# Altium footprint library Inductor_SMD.PcbLib: 587 footprints (part 33 of 37)
Each footprint in its own frame and in the unit in brackets; x right, y up, seen from the top. Pads: shape width x height; smd on the part's side, far side on the other; paste and mask are expansions set on the pad; w line width, h text height; cw(c..) or ccw(c..) is an arc to the next point about the centre after c.
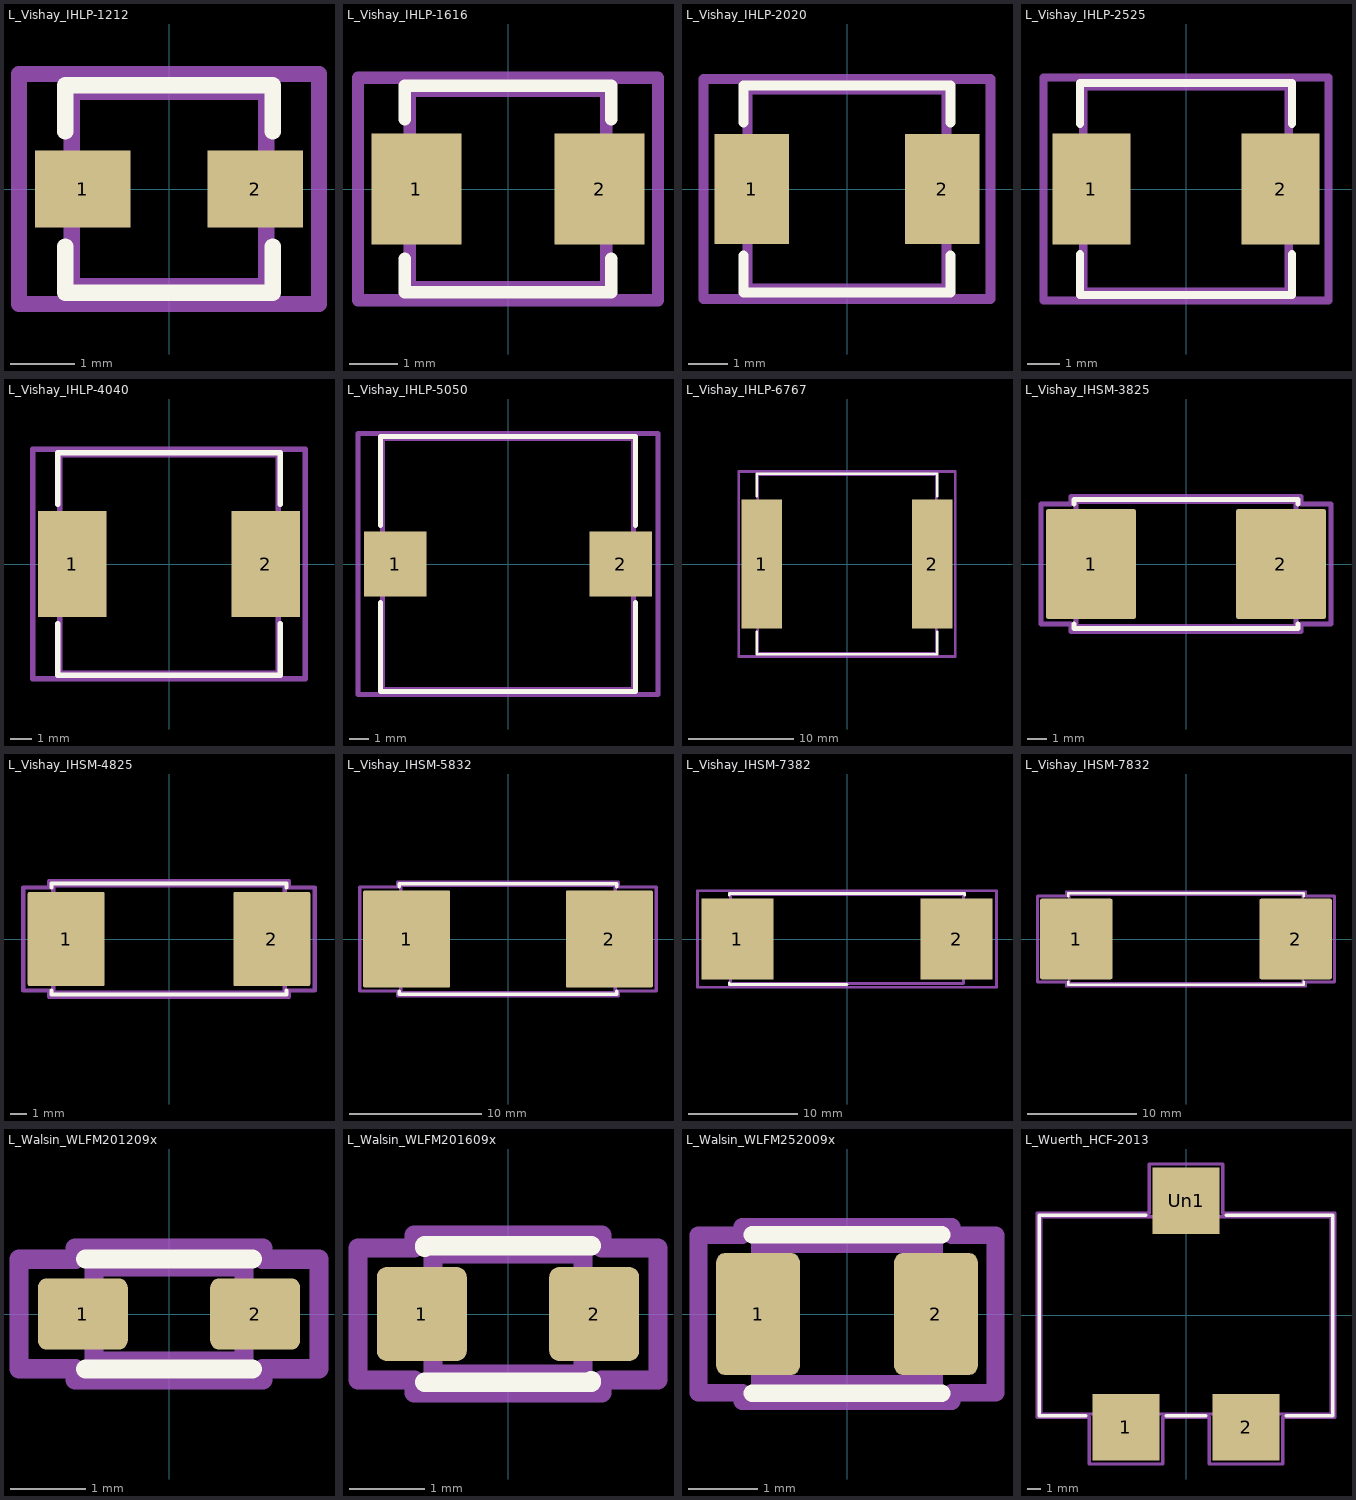
[diagram p32: the footprints below, top view; thin cyan lines are the x and y axes]

## L_Vishay_IHLP-1212 [mm] "L_Vishay_IHLP-1212"
pads (2):
  rect 1.5x1.2 smd: 1(-1.35,0) 2(1.35,0)
F.SilkS:
  lines w0.254: -1.624,-0.9 -1.624,-1.624 1.624,-1.624 1.624,-0.9 ; -1.624,0.9 -1.624,1.624 1.624,1.624 1.624,0.9
Top Assembly:
  lines w0.254: -1.524,-1.524 -1.524,1.524 1.524,1.524 1.524,-1.524 -1.524,-1.524
  text "'.Designator'" at -2.833,-0.588 h0.7
Top Courtyard:
  lines w0.254: -2.35,-1.8 -2.35,1.8 2.35,1.8 2.35,-1.8 -2.35,-1.8
Top Designator:
  text ".Designator" at -7.723,-0.508 h1.52

## L_Vishay_IHLP-1616 [mil] "L_Vishay_IHLP-1616"
pads (2):
  rect 73.01x90 smd: 1(-74.5,0) 2(74.5,0)
F.SilkS:
  lines w10: -83.94,-56.81 -83.94,-83.94 83.94,-83.94 83.94,-56.81 ; -83.94,56.81 -83.94,83.94 83.94,83.94 83.94,56.81
Top Assembly:
  lines w10: -80,-80 -80,80 80,80 80,-80 -80,-80
  text "'.Designator'" at -159.32,-33.08 h39.37
Top Courtyard:
  lines w10: -122.05,-90.55 -122.05,90.55 122.05,90.55 122.05,-90.55 -122.05,-90.55
Top Designator:
  text ".Designator" at -305.81,-19.99 h60

## L_Vishay_IHLP-2020 [mm] "L_Vishay_IHLP-2020"
pads (2):
  rect 1.903x2.79 smd: 1(-2.427,0) 2(2.427,0)
F.SilkS:
  lines w0.254: -2.64,-1.695 -2.64,-2.64 2.64,-2.64 2.64,-1.695 ; -2.64,1.695 -2.64,2.64 2.64,2.64 2.64,1.695
Top Assembly:
  lines w0.254: -2.54,-2.54 -2.54,2.54 2.54,2.54 2.54,-2.54 -2.54,-2.54
  text "'.Designator'" at -4.047,-0.84 h1
Top Courtyard:
  lines w0.254: -3.65,-2.8 -3.65,2.8 3.65,2.8 3.65,-2.8 -3.65,-2.8
Top Designator:
  text ".Designator" at -7.768,-0.508 h1.52

## L_Vishay_IHLP-2525 [mil] "L_Vishay_IHLP-2525"
pads (2):
  rect 95x135 smd: 1(-115,0) 2(115,0)
F.SilkS:
  lines w10: -128.94,-79.31 -128.94,-128.94 128.94,-128.94 128.94,-79.31 ; -128.94,79.31 -128.94,128.94 128.94,128.94 128.94,79.31
Top Assembly:
  lines w10: -125,-125 -125,125 125,125 125,-125 -125,-125
  text "'.Designator'" at -159.32,-33.08 h39.37
Top Courtyard:
  lines w10: -173.23,-135.83 -173.23,135.83 173.23,135.83 173.23,-135.83 -173.23,-135.83
Top Designator:
  text ".Designator" at -299.9,-19.99 h60

## L_Vishay_IHLP-4040 [mm] "L_Vishay_IHLP-4040"
pads (2):
  rect 3.175x4.95 smd: 1(-4.507,0) 2(4.507,0)
F.SilkS:
  lines w0.254: -5.18,-2.775 -5.18,-5.18 5.18,-5.18 5.18,-2.775 ; -5.18,2.775 -5.18,5.18 5.18,5.18 5.18,2.775
Top Assembly:
  lines w0.254: -5.08,-5.08 5.08,-5.08 5.08,5.08 -5.08,5.08 -5.08,-5.08
  text "'.Designator'" at -4.047,-0.84 h1
Top Courtyard:
  lines w0.254: -6.35,-5.35 6.35,-5.35 6.35,5.35 -6.35,5.35 -6.35,-5.35
Top Designator:
  text ".Designator" at -7.618,-0.508 h1.52

## L_Vishay_IHLP-5050 [mm] "L_Vishay_IHLP-5050"
pads (2):
  rect 3.175x3.3 smd: 1(-5.715,0) 2(5.715,0)
F.SilkS:
  lines w0.254: -6.45,-1.95 -6.45,-6.45 6.45,-6.45 6.45,-1.95 ; -6.45,1.95 -6.45,6.45 6.45,6.45 6.45,1.95
Top Assembly:
  lines w0.254: -6.35,-6.35 -6.35,6.35 6.35,6.35 6.35,-6.35 -6.35,-6.35
  text "'.Designator'" at -4.047,-0.84 h1
Top Courtyard:
  lines w0.254: -7.6,-6.6 -7.6,6.6 7.6,6.6 7.6,-6.6 -7.6,-6.6
Top Designator:
  text ".Designator" at -7.618,-0.508 h1.52

## L_Vishay_IHLP-6767 [mm] "L_Vishay_IHLP-6767"
pads (2):
  rect 3.825x12.32 smd: 1(-8.123,0) 2(8.123,0)
F.SilkS:
  lines w0.254: -8.609,-6.46 -8.609,-8.609 8.609,-8.609 8.609,-6.46 ; -8.609,6.46 -8.609,8.609 8.609,8.609 8.609,6.46
Top Assembly:
  lines w0.254: -8.509,-8.509 -8.509,8.509 8.509,8.509 8.509,-8.509 -8.509,-8.509
  text "'.Designator'" at -4.047,-0.84 h1
Top Courtyard:
  lines w0.254: -10.3,-8.8 -10.3,8.8 10.3,8.8 10.3,-8.8 -10.3,-8.8
Top Designator:
  text ".Designator" at -7.618,-0.508 h1.52

## L_Vishay_IHSM-3825 [mm] "L_Vishay_IHSM-3825"
pads (2):
  rrect5% 4.57x5.59 smd: 1(-4.825,0) 2(4.825,0)
F.SilkS:
  lines w0.254: -5.7,-3.055 -5.7,-3.285 5.7,-3.285 5.7,-3.055 ; -5.7,3.055 -5.7,3.285 5.7,3.285 5.7,3.055
Top Assembly:
  lines w0.254: -5.59,-3.175 5.59,-3.175 5.59,3.175 -5.59,3.175 -5.59,-3.175
  text "'.Designator'" at -4.047,-0.84 h1
Top Courtyard:
  lines w0.254: -7.36,-3.05 -5.84,-3.05 -5.84,-3.43 5.84,-3.43 5.84,-3.05 7.36,-3.05 7.36,3.05 5.84,3.05 5.84,3.43 -5.84,3.43 -5.84,3.05 -7.36,3.05 -7.36,-3.05
Top Designator:
  text ".Designator" at -7.618,-0.508 h1.52

## L_Vishay_IHSM-4825 [mm] "L_Vishay_IHSM-4825"
pads (2):
  rrect5% 4.57x5.59 smd: 1(-6.095,0) 2(6.095,0)
F.SilkS:
  lines w0.254: -6.97,-3.055 -6.97,-3.285 6.97,-3.285 6.97,-3.055 ; -6.97,3.055 -6.97,3.285 6.97,3.285 6.97,3.055
Top Assembly:
  lines w0.254: -6.86,-3.175 -6.86,3.175 6.86,3.175 6.86,-3.175 -6.86,-3.175
  text "'.Designator'" at -4.047,-0.84 h1
Top Courtyard:
  lines w0.254: -8.63,-3.05 -8.63,3.05 -7.11,3.05 -7.11,3.43 7.11,3.43 7.11,3.05 8.63,3.05 8.63,-3.05 7.11,-3.05 7.11,-3.43 -7.11,-3.43 -7.11,-3.05 -8.63,-3.05
Top Designator:
  text ".Designator" at -7.618,-0.508 h1.52

## L_Vishay_IHSM-5832 [mm] "L_Vishay_IHSM-5832"
pads (2):
  rrect4% 6.6x7.37 smd: 1(-7.685,0) 2(7.685,0)
F.SilkS:
  lines w0.254: -8.24,-3.945 -8.24,-4.175 8.24,-4.175 8.24,-3.945 ; -8.24,3.945 -8.24,4.175 8.24,4.175 8.24,3.945
Top Assembly:
  lines w0.254: -8.13,-4.065 8.13,-4.065 8.13,4.065 -8.13,4.065 -8.13,-4.065
  text "'.Designator'" at -4.047,-0.84 h1
Top Courtyard:
  lines w0.254: -11.24,-3.94 -8.38,-3.94 -8.38,-4.32 8.38,-4.32 8.38,-3.94 11.24,-3.94 11.24,3.94 8.38,3.94 8.38,4.32 -8.38,4.32 -8.38,3.94 -11.24,3.94 -11.24,-3.94
Top Designator:
  text ".Designator" at -7.618,-0.508 h1.52

## L_Vishay_IHSM-7382 [mm] "L_Vishay_IHSM-7382"
pads (2):
  rect 6.6x7.4 smd: 1(-10.031,0) 2(10.031,0)
F.SilkS:
  lines w0.254: -10.77,-4 -10.77,-4.165 0,-4.165 ; -10.77,4 -10.77,4.165 0,4.165 ; 0,4.165 10.77,4.165 ; 0,4.165 10.77,4.165 ; 10.77,4.165 10.77,4 10.77,4.165
Top Assembly:
  lines w0.254: -10.67,-4.065 10.67,-4.065 10.67,4.065 -10.67,4.065 -10.67,-4.065
Top Courtyard:
  lines w0.254: -13.681,-4.415 13.681,-4.415 13.681,4.415 -13.681,4.415 -13.681,-4.415
Top Designator:
  text ".Designator" at -7.618,-0.508 h1.52

## L_Vishay_IHSM-7832 [mm] "L_Vishay_IHSM-7832"
pads (2):
  rrect4% 6.6x7.37 smd: 1(-10.035,0) 2(10.035,0)
F.SilkS:
  lines w0.254: -10.78,-3.945 -10.78,-4.175 10.78,-4.175 10.78,-3.945 ; -10.78,3.945 -10.78,4.175 10.78,4.175 10.78,3.945
Top Assembly:
  lines w0.254: -10.67,-4.065 10.67,-4.065 10.67,4.065 -10.67,4.065 -10.67,-4.065
  text "'.Designator'" at -4.047,-0.84 h1
Top Courtyard:
  lines w0.254: -13.59,-3.94 -10.92,-3.94 -10.92,-4.32 10.92,-4.32 10.92,-3.94 13.59,-3.94 13.59,3.94 10.92,3.94 10.92,4.32 -10.92,4.32 -10.92,3.94 -13.59,3.94 -13.59,-3.94
Top Designator:
  text ".Designator" at -7.618,-0.508 h1.52

## L_Walsin_WLFM201209x [mm] "L_Walsin_WLFM201209x"
pads (2):
  rrect25% 1.2x0.95 smd: 1(-1.15,0) 2(1.15,0)
F.SilkS:
  lines w0.254: -1.11,-0.735 1.11,-0.735 ; -1.11,0.735 1.11,0.735
Top Assembly:
  lines w0.254: -1,-0.625 -1,0.625 1,0.625 1,-0.625 -1,-0.625
  text "'.Designator'" at -2.028,-0.425 h0.5
Top Courtyard:
  lines w0.254: -2,-0.73 -2,0.73 -1.25,0.73 -1.25,0.88 1.25,0.88 1.25,0.73 2,0.73 2,-0.73 1.25,-0.73 1.25,-0.88 -1.25,-0.88 -1.25,-0.73 -2,-0.73
Top Designator:
  text ".Designator" at -7.618,-0.508 h1.52

## L_Walsin_WLFM201609x [mm] "L_Walsin_WLFM201609x"
pads (2):
  rrect21% 1.2x1.25 smd: 1(-1.15,0) 2(1.15,0)
F.SilkS:
  lines w0.254: -1.11,-0.91 1.11,-0.91 1.11,-0.885 ; -1.11,0.885 -1.11,0.91 1.11,0.91
Top Assembly:
  lines w0.254: -1,-0.8 1,-0.8 1,0.8 -1,0.8 -1,-0.8
  text "'.Designator'" at -2.028,-0.425 h0.5
Top Courtyard:
  lines w0.254: -2,-0.88 -1.25,-0.88 -1.25,-1.05 1.25,-1.05 1.25,-0.88 2,-0.88 2,0.88 1.25,0.88 1.25,1.05 -1.25,1.05 -1.25,0.88 -2,0.88 -2,-0.88
Top Designator:
  text ".Designator" at -7.618,-0.508 h1.52

## L_Walsin_WLFM252009x [mm] "L_Walsin_WLFM252009x"
pads (2):
  rrect21% 1.2x1.75 smd: 1(-1.275,0) 2(1.275,0)
F.SilkS:
  lines w0.254: -1.36,-1.135 1.36,-1.135 ; -1.36,1.135 1.36,1.135
Top Assembly:
  lines w0.254: -1.25,-1 -1.25,1 1.25,1 1.25,-1 -1.25,-1
  text "'.Designator'" at -2.506,-0.518 h0.62
Top Courtyard:
  lines w0.254: -2.13,-1.13 -2.13,1.13 -1.5,1.13 -1.5,1.25 1.5,1.25 1.5,1.13 2.13,1.13 2.13,-1.13 1.5,-1.13 1.5,-1.25 -1.5,-1.25 -1.5,-1.13 -2.13,-1.13
Top Designator:
  text ".Designator" at -7.708,-0.508 h1.52

## L_Wuerth_HCF-2013 [mm] "L_Wuerth_HCF-2013"
pads (3):
  rect 5x5 smd: 1(-4.5,-8.4) 2(4.5,-8.4) Un1(0,8.6)
F.SilkS:
  lines w0.254: -7.5,-7.52 -11.02,-7.52 -11.02,7.52 -3,7.52 ; -1.5,-7.52 1.5,-7.52 ; 3,7.52 11.02,7.52 11.02,-7.52 7.5,-7.52
Top Assembly:
  lines w0.254: -10.9,-7.4 -10.9,7.4 10.9,7.4 10.9,-7.4 -10.9,-7.4
  text "'.Designator'" at -4.047,-0.84 h1
Top Courtyard:
  lines w0.254: -11.15,-7.65 -11.15,7.65 -2.75,7.65 -2.75,11.35 2.75,11.35 2.75,7.65 11.15,7.65 11.15,-7.65 7.25,-7.65 7.25,-11.15 1.75,-11.15 1.75,-7.65 -1.75,-7.65 -1.75,-11.15 -7.25,-11.15 -7.25,-7.65 -11.15,-7.65
Top Designator:
  text ".Designator" at -7.618,-0.408 h1.52